# EAGLE library part PT61017PEL (library Bourns-PT61017PEL)
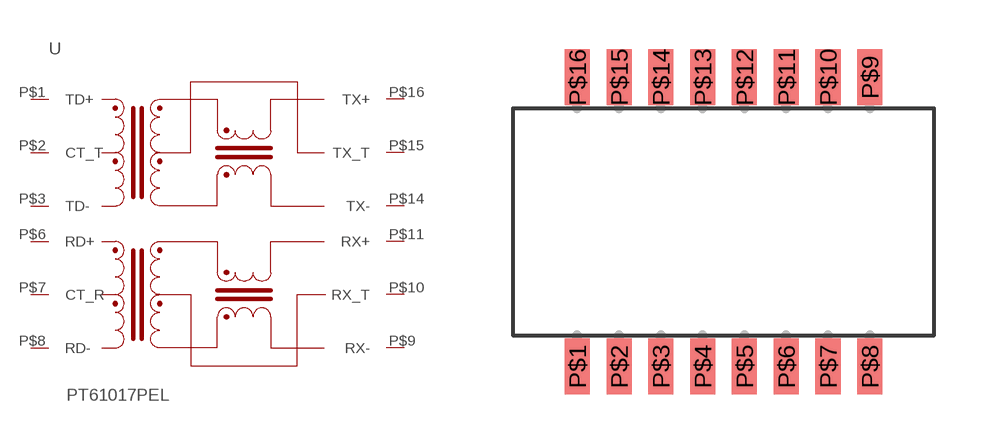
[diagram p0: symbol with the pads of PT61017PEL; footprint PT61017PEL]

Designator prefix -

## PT61017PEL  [PT61017PEL]
P$1  TD+  in
P$2  CT_T  in
P$3  TD-  in
P$6  RD+  in
P$7  CT_R  in
P$8  RD-  in
P$9  RX-  in
P$10  RX_T  in
P$11  RX+  in
P$14  TX-  in
P$15  TX_T  in
P$16  TX+  in

## Footprint PT61017PEL (pad centres in mm)
smd 0.76 x 1.7: P$1 -4.445,-4.4; P$2 -3.175,-4.4; P$3 -1.905,-4.4; P$4 -0.635,-4.4; P$5 0.635,-4.4; P$6 1.905,-4.4; P$7 3.175,-4.4; P$8 4.445,-4.4; P$9 4.445,4.4; P$10 3.175,4.4; P$11 1.905,4.4; P$12 0.635,4.4; P$13 -0.635,4.4; P$14 -1.905,4.4; P$15 -3.175,4.4; P$16 -4.445,4.4